# Altium footprint library RPSLib_Microwave.PcbLib: 3 footprints
Each footprint in its own frame and in the unit in brackets; x right, y up, seen from the top. Pads: shape width x height; smd on the part's side, far side on the other; paste and mask are expansions set on the pad; w line width, h text height; cw(c..) or ccw(c..) is an arc to the next point about the centre after c.
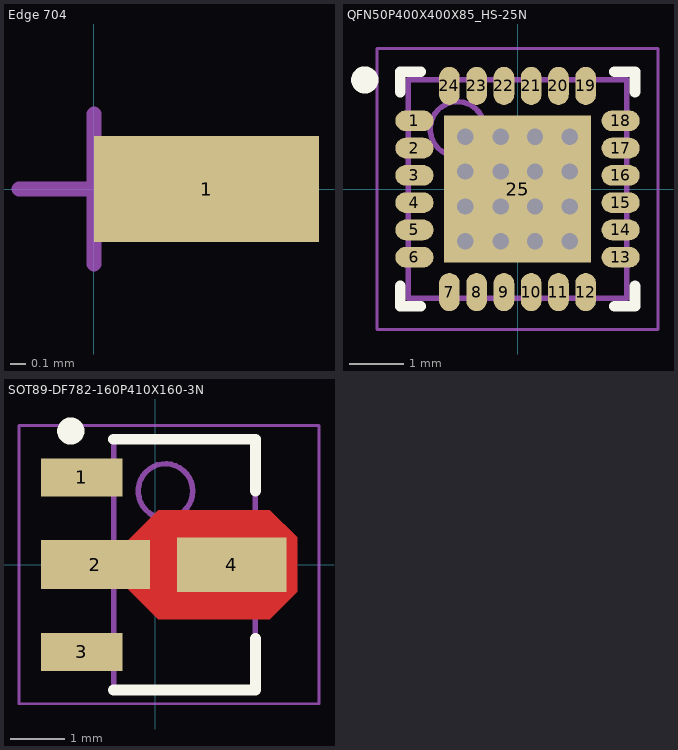
[diagram p0: the footprints below, top view; thin cyan lines are the x and y axes]

## Edge 704 [mm] "Полосок 0,704 мм"
height 0.05
pads (1):
  rect 1.5x0.704 smd mask+0.07: 1(0.75,0)
Mechanical 15:
  lines w0.1: -0.5,0 0.5,0 ; 0,-0.5 0,0.5

## QFN50P400X400X85_HS-25N [mm] "QFN, 24-Leads, Body 4,00x4,00mm, Pitch 0,50mm, Thermal Pad 2,70x2,70mm, IPC Medium Density"
height 0.85
pads (25):
  oval 0.7x0.38 smd: 1(-1.89,1.25) 2(-1.89,0.75) 3(-1.89,0.25) 4(-1.89,-0.25) 5(-1.89,-0.75) 6(-1.89,-1.25) 13(1.89,-1.25) 14(1.89,-0.75) 15(1.89,-0.25) 16(1.89,0.25) 17(1.89,0.75) 18(1.89,1.25)
  oval 0.38x0.7 smd: 7(-1.25,-1.89) 8(-0.75,-1.89) 9(-0.25,-1.89) 10(0.25,-1.89) 11(0.75,-1.89) 12(1.25,-1.89) 19(1.25,1.89) 20(0.75,1.89) 21(0.25,1.89) 22(-0.25,1.89) 23(-0.75,1.89) 24(-1.25,1.89)
  rect 2.7x2.7 smd: 25(0,0)
via 0.96,-0.96 diameter 0.6 hole 0.3
via 0.32,-0.96 diameter 0.6 hole 0.3
via -0.31,-0.96 diameter 0.6 hole 0.3
via -0.96,-0.96 diameter 0.6 hole 0.3
via 0.96,-0.32 diameter 0.6 hole 0.3
via 0.32,-0.32 diameter 0.6 hole 0.3
via -0.31,-0.32 diameter 0.6 hole 0.3
via -0.96,-0.32 diameter 0.6 hole 0.3
via 0.96,0.96 diameter 0.6 hole 0.3
via 0.32,0.96 diameter 0.6 hole 0.3
via -0.31,0.96 diameter 0.6 hole 0.3
via -0.96,0.96 diameter 0.6 hole 0.3
via 0.96,0.32 diameter 0.6 hole 0.3
via 0.32,0.32 diameter 0.6 hole 0.3
via -0.31,0.32 diameter 0.6 hole 0.3
via -0.96,0.32 diameter 0.6 hole 0.3
Top Overlay:
  circle w0.25: c-2.8,2 r0.125
  lines w0.2: -2.15,-1.775 -2.15,-2.15 -1.775,-2.15 ; -2.15,1.775 -2.15,2.15 -1.775,2.15 ; 1.775,-2.15 2.15,-2.15 2.15,-1.775 ; 1.775,2.15 2.15,2.15 2.15,1.775
Mechanical 13:
  circle w0.1: c-1.1,1.1 r0.5
  lines w0.1: -2,-2 -2,2 2,2 2,-2 -2,-2
Mechanical 15:
  lines w0.05: -2.575,-2.575 -2.575,2.575 2.575,2.575 2.575,-2.575 -2.575,-2.575
  lines w0.1: -0.5,0 0.5,0 ; 0,-0.5 0,0.5
3D body "QFN50P400X400X85_HS-25N.step": height 0.85, standoff 0, extent -2.01,-2.01 2.01,2.01

## SOT89-DF782-160P410X160-3N [mm] "SOT89, 3-Leads, Body 4,50x2,45mm, Pitch 1,60mm, Lead Span 4,1mm, IPC Medium Density"
height 1.6
pads (4):
  rect 1.5x0.7 smd: 1(-1.35,1.6) 3(-1.35,-1.6)
  rect 2x0.9 smd: 2(-1.1,0)
  rect 2x1 smd mask+0.07: 4(1.4,0)
Top Layer:
  region: -0.95,0 0.05,1 2.1,1 2.6,0.5 2.6,-0.5 2.1,-1 0.05,-1
Top Overlay:
  circle w0.25: c-1.55,2.45 r0.125
  lines w0.2: -0.765,-2.3 1.835,-2.3 1.835,-1.35 ; -0.765,2.3 1.835,2.3 1.835,1.35
Mechanical 13:
  circle w0.1: c0.185,1.35 r0.5
  lines w0.1: -0.765,-2.3 1.835,-2.3 1.835,2.3 -0.765,2.3 -0.765,-2.3
Mechanical 15:
  lines w0.05: -2.5,-2.55 3,-2.55 3,2.55 -2.5,2.55 -2.5,-2.55
  lines w0.1: 0.035,0 1.035,0 ; 0.535,-0.5 0.535,0.5
3D body "DF782.step": height 1.6, standoff 0, extent -1.835,-2.3 2.358,2.3